# Altium footprint library PCB - CAPACITOR - ALUMINIUM - CAP TH ALUM ELEC D22.00mm S10.00mm H47.00mm.PCBLIB: 1 footprints
Each footprint in its own frame and in the unit in brackets; x right, y up, seen from the top. Pads: shape width x height; smd on the part's side, far side on the other; paste and mask are expansions set on the pad; w line width, h text height; cw(c..) or ccw(c..) is an arc to the next point about the centre after c.
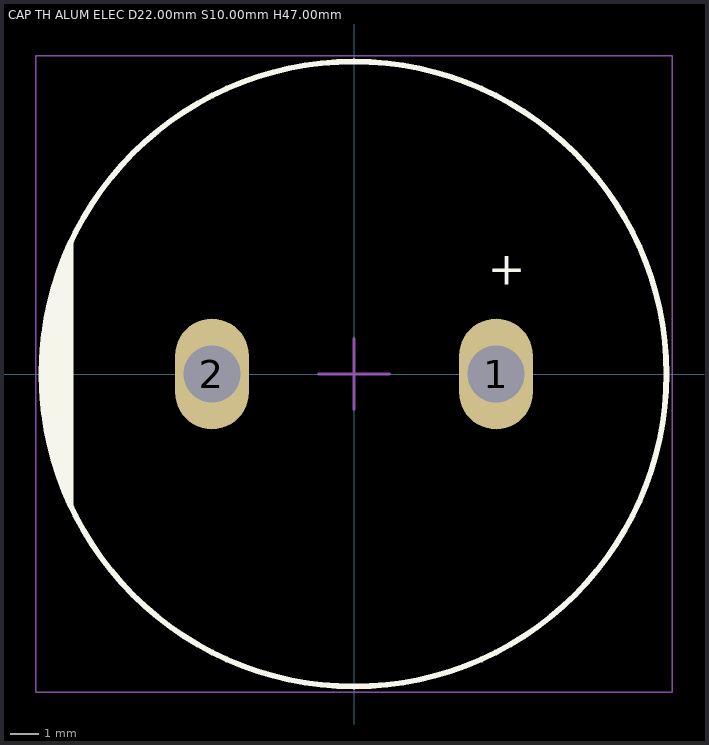
[diagram p0: the footprint, top view; thin cyan lines are the x and y axes]

## CAP TH ALUM ELEC D22.00mm S10.00mm H47.00mm [mm] "22mm Diameter 10mm Lead Spacing Aluminum Electrolytic Capacitors Radial, Can , Snap-In"
height 47
pads (2):
  oval 2.6x3.9 hole 2: 1(5,0) 2(-5,0)
Top Overlay:
  circle w0.2: c0,0 r11
  region: -9.969,-4.649 -10.138,-4.286 -10.423,-3.538 -10.653,-2.771 -10.826,-1.99 -10.942,-1.198 -11,-0.4 -11,0.4 -10.942,1.198 -10.826,1.99 -10.653,2.771 -10.423,3.538 -10.138,4.286 -9.969,4.649
  lines w0.2: -9.969,-4.649 cw(c0,0) -9.969,4.649 -9.969,-4.649
  text "+" at 4.7,2.75 h2
Mechanical 13:
  circle w0.1: c0,0 r11
  lines w0.1: -9.969,-4.649 -9.969,4.649
Mechanical 15:
  lines w0.05: -11.2,-11.2 -11.2,11.2 11.2,11.2 11.2,-11.2 -11.2,-11.2
  lines w0.1: -1.25,0 0,0 ; 0,-1.25 0,0 ; 0,1.25 0,0 ; 1.25,0 0,0
3D body "Cap TH D22.00mm H47.00mm L10.00mm.step": height 47, standoff -2.5, extent -11.004,-11.3 11,10.7